# EAGLE library part LDS-AA14RI (library Components Library)
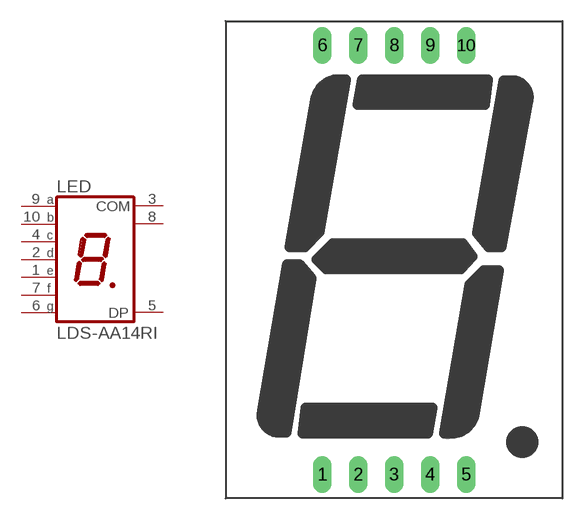
[diagram p15: symbol with the pads of LDS-AA14RI; footprint LDS-AA14RI]

Designator prefix LED

## LDS-AA14RI  [LDS-AA14RI]
1  E  pas
2  D  pas
3  COM  pas
4  C  pas
5  DP  pas
6  G  pas
7  F  pas
8  COM  pas
9  A  pas
10  B  pas

## Footprint LDS-AA14RI (pad centres in mm)
drill 0.8 long: 1 -5.08,-15.2; 2 -2.54,-15.2; 3 0,-15.2; 4 2.54,-15.2; 5 5.08,-15.2; 6 -5.08,15.2; 7 -2.54,15.2; 8 0,15.2; 9 2.54,15.2; 10 5.08,15.2